# EAGLE library part INSTAMP_AD8293 (library akita)
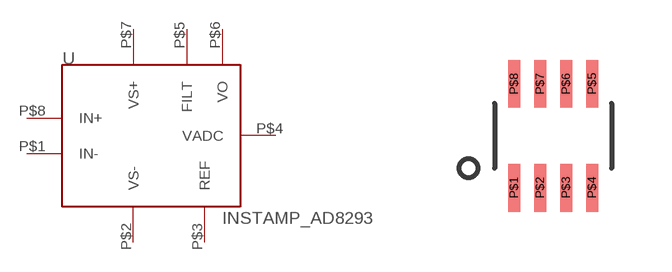
[diagram p100: symbol with the pads of SOT23-8; footprint SOT23-8]

Designator prefix -

## INSTAMP_AD8293  [SOT23-8]
P$1  IN-
P$2  VS-
P$3  REF
P$4  VADC
P$5  FILT
P$6  VO
P$7  VS+
P$8  IN+

## Footprint SOT23-8 (pad centres in mm)
smd 0.3 x 1.2: P$1 -0.975,-1.3; P$2 -0.325,-1.3; P$3 0.325,-1.3; P$4 0.975,-1.3; P$5 0.975,1.3; P$6 0.325,1.3; P$7 -0.325,1.3; P$8 -0.975,1.3